# EAGLE library part PHB_1MM27_2X22_?_S (library _hhn_con_pinhead_box_1mm27)
Pin Header Box-Type, 1.27mm/0.5"/50mil Pitch, 2x22 Circuits, single gates in schematic Note: see library description for an important note about THT-version
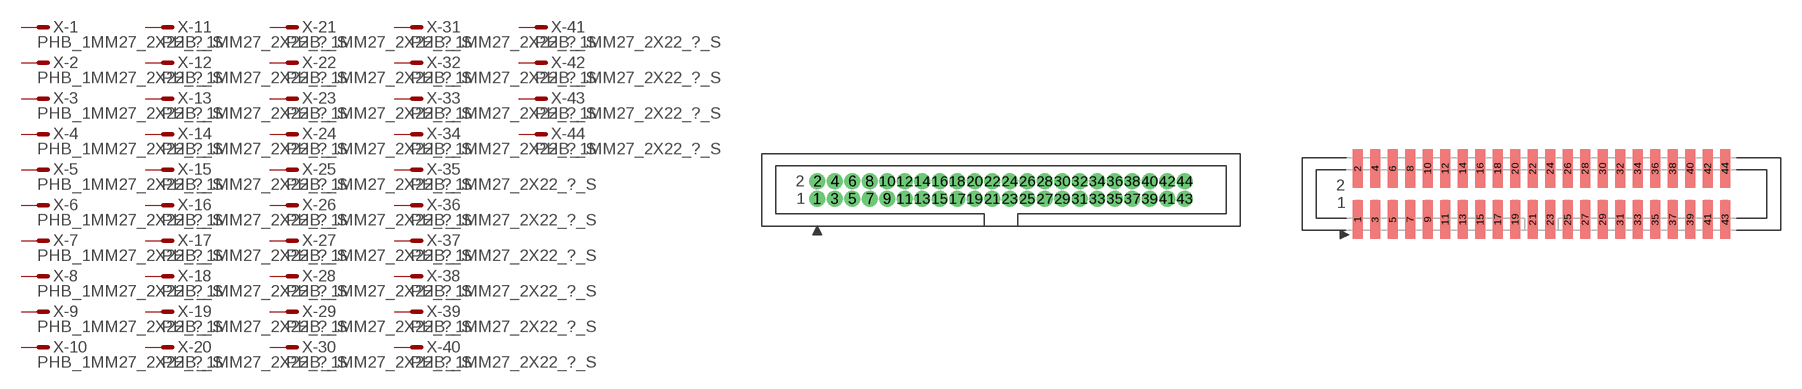
[diagram p25: symbol with the pads of PHB_1MM27_2X22_SNT; footprints PHB_1MM27_2X22_SNT, PHB_1MM27_2X22_SNS]

Designator prefix X; gates -1=M -2=M -3=M -4=M -5=M -6=M -7=M -8=M -9=M -10=M -11=M -12=M -13=M -14=M -15=M -16=M -17=M -18=M -19=M -20=M -21=M -22=M -23=M -24=M -25=M -26=M -27=M -28=M -29=M -30=M -31=M -32=M -33=M -34=M -35=M -36=M -37=M -38=M -39=M -40=M -41=M -42=M -43=M -44=M

## PHB_1MM27_2X22_SNT_S  [PHB_1MM27_2X22_SNT]
1  -1:S  pas
2  -2:S  pas
3  -3:S  pas
4  -4:S  pas
5  -5:S  pas
6  -6:S  pas
7  -7:S  pas
8  -8:S  pas
9  -9:S  pas
10  -10:S  pas
11  -11:S  pas
12  -12:S  pas
13  -13:S  pas
14  -14:S  pas
15  -15:S  pas
16  -16:S  pas
17  -17:S  pas
18  -18:S  pas
19  -19:S  pas
20  -20:S  pas
21  -21:S  pas
22  -22:S  pas
23  -23:S  pas
24  -24:S  pas
25  -25:S  pas
26  -26:S  pas
27  -27:S  pas
28  -28:S  pas
29  -29:S  pas
30  -30:S  pas
31  -31:S  pas
32  -32:S  pas
33  -33:S  pas
34  -34:S  pas
35  -35:S  pas
36  -36:S  pas
37  -37:S  pas
38  -38:S  pas
39  -39:S  pas
40  -40:S  pas
41  -41:S  pas
42  -42:S  pas
43  -43:S  pas
44  -44:S  pas

## PHB_1MM27_2X22_SNS_S  [PHB_1MM27_2X22_SNS]
Pads as for PHB_1MM27_2X22_SNT

## Footprint PHB_1MM27_2X22_SNT (pad centres in mm)
Pin Header Box-Type, 1.27mm Pitch, 2x22 circuits, Straight, No Locking, THT Important Note regarding to THT-versions: see description of library
drill 0.65 round: 1 -13.335,-0.635; 2 -13.335,0.635; 3 -12.065,-0.635; 4 -12.065,0.635; 5 -10.795,-0.635; 6 -10.795,0.635; 7 -9.525,-0.635; 8 -9.525,0.635; 9 -8.255,-0.635; 10 -8.255,0.635; 11 -6.985,-0.635; 12 -6.985,0.635; 13 -5.715,-0.635; 14 -5.715,0.635; 15 -4.445,-0.635; 16 -4.445,0.635; 17 -3.175,-0.635; 18 -3.175,0.635; 19 -1.905,-0.635; 20 -1.905,0.635; 21 -0.635,-0.635; 22 -0.635,0.635; 23 0.635,-0.635; 24 0.635,0.635; 25 1.905,-0.635; 26 1.905,0.635; 27 3.175,-0.635; 28 3.175,0.635; 29 4.445,-0.635; 30 4.445,0.635; 31 5.715,-0.635; 32 5.715,0.635; 33 6.985,-0.635; 34 6.985,0.635; 35 8.255,-0.635; 36 8.255,0.635; 37 9.525,-0.635; 38 9.525,0.635; 39 10.795,-0.635; 40 10.795,0.635; 41 12.065,-0.635; 42 12.065,0.635; 43 13.335,-0.635; 44 13.335,0.635

## Footprint PHB_1MM27_2X22_SNS (pad centres in mm)
Pin Header Box-Type, 1.27mm Pitch, 2x22 circuits, Straight, No Locking, SMT
smd 0.76 x 2.8: 1 -13.335,-1.85; 2 -13.335,1.85; 3 -12.065,-1.85; 4 -12.065,1.85; 5 -10.795,-1.85; 6 -10.795,1.85; 7 -9.525,-1.85; 8 -9.525,1.85; 9 -8.255,-1.85; 10 -8.255,1.85; 11 -6.985,-1.85; 12 -6.985,1.85; 13 -5.715,-1.85; 14 -5.715,1.85; 15 -4.445,-1.85; 16 -4.445,1.85; 17 -3.175,-1.85; 18 -3.175,1.85; 19 -1.905,-1.85; 20 -1.905,1.85; 21 -0.635,-1.85; 22 -0.635,1.85; 23 0.635,-1.85; 24 0.635,1.85; 25 1.905,-1.85; 26 1.905,1.85; 27 3.175,-1.85; 28 3.175,1.85; 29 4.445,-1.85; 30 4.445,1.85; 31 5.715,-1.85; 32 5.715,1.85; 33 6.985,-1.85; 34 6.985,1.85; 35 8.255,-1.85; 36 8.255,1.85; 37 9.525,-1.85; 38 9.525,1.85; 39 10.795,-1.85; 40 10.795,1.85; 41 12.065,-1.85; 42 12.065,1.85; 43 13.335,-1.85; 44 13.335,1.85